# Altium schematic symbol library Custom pcb schamatic.SchLib: 110 symbols
Pins are listed as number, name and electrical type; pins without a type are passive.

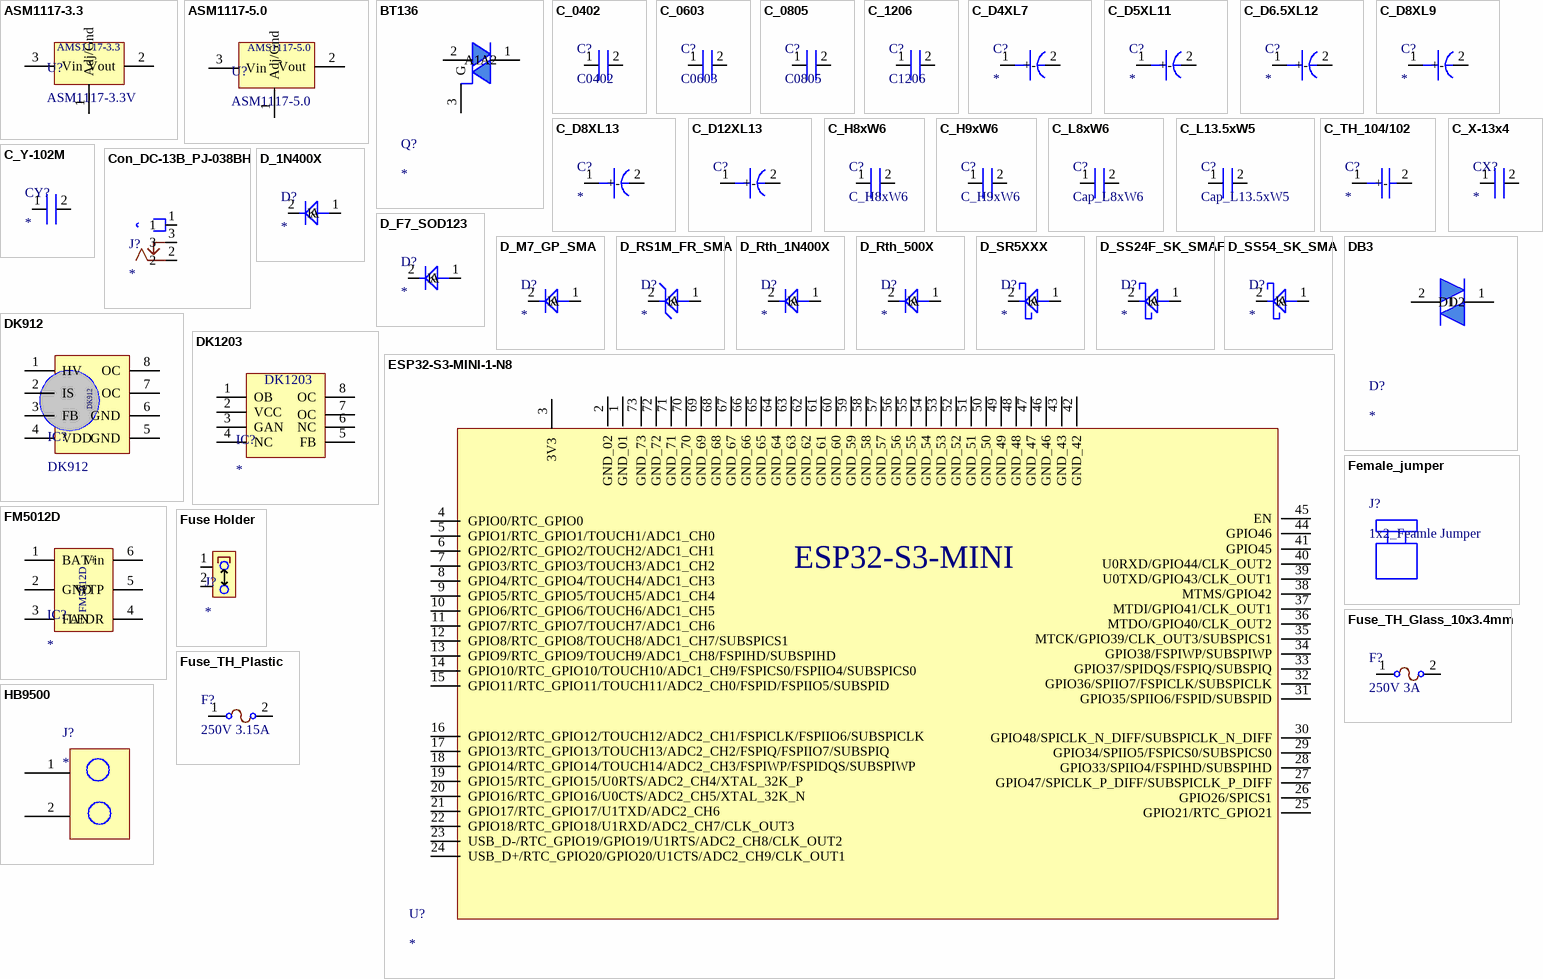
[diagram p0: symbols ASM1117-3.3 to HB9500]

## ASM1117-3.3
designator U?, comment ASM1117-3.3V
ASM1117-3.3V SOT-223; PN: *; Link: *
footprint AMS117-3.3
pins: 1 Adj/Gnd, 2 Vout, 3 Vin
text: AMS1117-3.3

## ASM1117-5.0
designator U?
ASM1117-5.0V SOT-223; PN: *; Link: *
footprint Ams117-5.0
pins: 1 Adj/Gnd, 2 Vout, 3 Vin
text: AMS1117-5.0

## BT136
designator Q?
PN: BT136-600E; Link: https://www.lcsc.com/product-detail/TRIACs_Minos-BT136-600E_C2980276.html
footprint TO220 (3 pin transistor 2.54 pitch)
pins: 1 A1, 2 A2, 3 G

## C_0402
designator C?, comment C0402
PN: *; Link: *
footprint C_0402
pins: 1, 2

## C_0603
designator C?, comment C0603
PN: *; Link: *
footprint C_0603
pins: 1, 2

## C_0805
designator C?, comment C0805
Pn: *; Link: *
footprint C_0805
pins: 1, 2

## C_1206
designator C?, comment C1206
PN: *; Link: *
footprint C_1206
pins: 1, 2

## C_D4XL7
designator C?
P=1.5mm; PN: *; Link: *
footprint CAP_D4XL7 (p=1.5mm)
pins: 1 +, 2 -

## C_D5XL11
designator C?
P=2mm; PN: *; Link: *
footprint CAP_D5XL11 (p=2mm)
pins: 1 +, 2 -

## C_D6.5XL12
designator C?
P=2.5mm; PN: *; Link: *
footprint CAP_D6.5XL12 (p=2.5mm)
pins: 1 +, 2 -

## C_D8XL9
designator C?
P=3.5mm; PN: *; Link: *
footprint CAP_D8XL9 (p=3.5mm)
pins: 1 +, 2 -

## C_D8XL13
designator C?
P=3.5mm; PN: *; Link: *
footprint CAP_D8XL13 (p=3.5mm)
pins: 1 +, 2 -

## C_D12XL13
designator C?
P=5mm; PN: *; Link: *
footprint CAP_D12XL13 (p=5mm)
pins: 1 +, 2 -

## C_H8xW6
designator C?
P=5mm; PN: *; Link: *
footprint C_H9xW6 (p=4mm)
pins: 1, 2

## C_H9xW6
designator C?
P=4mm; PN: *; Link: *
footprint C_H9xW6 (p=4mm)
pins: 1, 2

## C_L8xW6
designator C?, comment Cap_L8xW6
P=8mm
footprint C_L8xW6 (P=8mm)
pins: 1, 2

## C_L13.5xW5
designator C?, comment Cap_L13.5xW5
P=10mm
footprint C_L13.5xW5 (p=10mm)
pins: 1, 2

## C_TH_104/102
designator C?
P=5mm; PN: *; Link: *
footprint C_TH_104/102 (TH 104/102 capacitor 5mm Pitch)
pins: 1 +, 2 -

## C_X-13x4
designator CX?
MPX X2 0.22 uf 275v Metal Film Capacitor Pitch 10mm; PN: *; Link: https://www.jeccapacitor.com/safety-capacitor/mpx-x2-0.22-uf-275v-metal-film-capacitor.html
footprint CAP_X-13x4 (P-10mm)
pins: 1, 2

## C_Y-102M
designator CY?
Y1 safety ceramic capacitor 400V 102M; PN: JN102M; Link: https://www.zeusbtc.com/ASIC-Miner-Repair/Parts-Tools-Details.asp?ID=1443
footprint CAP_Y-P10-TH (P-10mm)
pins: 1, 2

## Con_DC-13B_PJ-038BH
designator J?
2.5mm Chassis Mounting DC Power Socket Connector; PN: PJ-038BH; Link: https://www.sameskydevices.com/product/resource/pj-038bh.pdf
footprint Con_DC-13B_PJ-038BH
pins: 1, 2, 3

## D_1N400X
designator D?
PN: *; Link: *
footprint D_1N400X (1N400X genral diode)
pins: 1 A, 2 K

## D_F7_SOD123
designator D?
PN: *; Link: *
footprint SOD123F-F7 (F7)
pins: 1 A, 2 K

## D_M7_GP_SMA
designator D?
PN: *; Link: *
footprint SMA_M7
pins: 1 A, 2 K

## D_RS1M_FR_SMA
designator D?
PN: *; Link: *
footprint SMA_M7
pins: 1 A, 2 K

## D_Rth_1N400X
designator D?
PN: *; Link: *
footprint D_Rth_1N400X
pins: 1 A, 2 K

## D_Rth_500X
designator D?
PN: *; Link: *
footprint D_Rth_500X
pins: 1 A, 2 K

## D_SR5XXX
designator D?
PN: *; Link: *
footprint D_SR5XXX (SR5XXX)
pins: 1 A, 2 K

## D_SS24F_SK_SMAF
designator D?
PN: *; Link: *
footprint SMAF (SS24F)
pins: 1 A, 2 K

## D_SS54_SK_SMA
designator D?
PN: *; Link: *
footprint SMA_M7
pins: 1 A, 2 K

## DB3
designator D?
PN: *; Link: *
footprint DB3
pins: 1 D1, 2 D2

## DK912
designator IC?
Link: *; PN: *
footprint SOP8
pins: 1 HV, 2 IS, 3 FB, 4 VDD, 5 GND, 6 GND, 7 OC, 8 OC

## DK1203
designator IC?
DK1203-15W , DK; PN: DK1203; Link: https://www.chipspulse.com/product/DK/DK1203-15W.html?utm_source=digipart&sku=DK1203-15W
footprint DK1203_TH
pins: 1 OB, 2 VCC, 3 GAN, 4 NC, 5 FB, 6 NC, 7 OC, 8 OC

## ESP32-S3-MINI-1-N8
designator U?
Bluetooth, WiFi 802.11b/g/n, Bluetooth v5.0 Transceiver Module 2.4GHz PCB Trace Surface Mount; PN: ESP32-S3-MINI-1-N8; Link: https://www.digikey.in/en/products/detail/espressif-systems/ESP32-S3-MINI-1-N8/15295890?gad_source=1&gclid=Cj0KCQiA8q--BhDiARIsAP9tKI22CCGmerfSxD2uR0z4XR06qFhDNyIUG9spqjyIpAb9EakBCG3Uz6AaAmzxEALw_wcB&gclsrc=aw.ds
footprint ESP32-S3-MINI-1-N8
pins: 1 GND_01, 2 GND_02, 3 3V3, 4 GPIO0/RTC_GPIO0, 5 GPIO1/RTC_GPIO1/TOUCH1/ADC1_CH0, 6 GPIO2/RTC_GPIO2/TOUCH2/ADC1_CH1, 7 GPIO3/RTC_GPIO3/TOUCH3/ADC1_CH2, 8 GPIO4/RTC_GPIO4/TOUCH4/ADC1_CH3, 9 GPIO5/RTC_GPIO5/TOUCH5/ADC1_CH4, 10 GPIO6/RTC_GPIO6/TOUCH6/ADC1_CH5, 11 GPIO7/RTC_GPIO7/TOUCH7/ADC1_CH6, 12 GPIO8/RTC_GPIO8/TOUCH8/ADC1_CH7/SUBSPICS1, 13 GPIO9/RTC_GPIO9/TOUCH9/ADC1_CH8/FSPIHD/SUBSPIHD, 14 GPIO10/RTC_GPIO10/TOUCH10/ADC1_CH9/FSPICS0/FSPIIO4/SUBSPICS0, 15 GPIO11/RTC_GPIO11/TOUCH11/ADC2_CH0/FSPID/FSPIIO5/SUBSPID, 16 GPIO12/RTC_GPIO12/TOUCH12/ADC2_CH1/FSPICLK/FSPIIO6/SUBSPICLK, 17 GPIO13/RTC_GPIO13/TOUCH13/ADC2_CH2/FSPIQ/FSPIIO7/SUBSPIQ, 18 GPIO14/RTC_GPIO14/TOUCH14/ADC2_CH3/FSPIWP/FSPIDQS/SUBSPIWP, 19 GPIO15/RTC_GPIO15/U0RTS/ADC2_CH4/XTAL_32K_P, 20 GPIO16/RTC_GPIO16/U0CTS/ADC2_CH5/XTAL_32K_N, 21 GPIO17/RTC_GPIO17/U1TXD/ADC2_CH6, 22 GPIO18/RTC_GPIO18/U1RXD/ADC2_CH7/CLK_OUT3, 23 USB_D-/RTC_GPIO19/GPIO19/U1RTS/ADC2_CH8/CLK_OUT2, 24 USB_D+/RTC_GPIO20/GPIO20/U1CTS/ADC2_CH9/CLK_OUT1, 25 GPIO21/RTC_GPIO21, 26 GPIO26/SPICS1, 27 GPIO47/SPICLK_P_DIFF/SUBSPICLK_P_DIFF, 28 GPIO33/SPIIO4/FSPIHD/SUBSPIHD, 29 GPIO34/SPIIO5/FSPICS0/SUBSPICS0, 30 GPIO48/SPICLK_N_DIFF/SUBSPICLK_N_DIFF, 31 GPIO35/SPIIO6/FSPID/SUBSPID, 32 GPIO36/SPIIO7/FSPICLK/SUBSPICLK, 33 GPIO37/SPIDQS/FSPIQ/SUBSPIQ, 34 GPIO38/FSPIWP/SUBSPIWP, 35 MTCK/GPIO39/CLK_OUT3/SUBSPICS1, 36 MTDO/GPIO40/CLK_OUT2, 37 MTDI/GPIO41/CLK_OUT1, 38 MTMS/GPIO42, 39 U0TXD/GPIO43/CLK_OUT1, 40 U0RXD/GPIO44/CLK_OUT2, 41 GPIO45, 42 GND_42, 43 GND_43, 44 GPIO46, 45 EN, 46 GND_46, 47 GND_47, 48 GND_48, 49 GND_49, 50 GND_50, 51 GND_51, 52 GND_52, 53 GND_53, 54 GND_54, 55 GND_55, 56 GND_56, 57 GND_57, 58 GND_58, 59 GND_59, 60 GND_60, 61 GND_61, 62 GND_62, 63 GND_63, 64 GND_64, 65 GND_65, 66 GND_66, 67 GND_67, 68 GND_68, 69 GND_69, 70 GND_70, 71 GND_71, 72 GND_72, 73 GND_73
text: ESP32-S3-MINI

## Female_jumper
designator J?, comment 1x2_Feamle Jumper  (mechanical)
Jumper (Busbar), Shunt, Shunt, 0.050 X 0.100 Terminal Strips, 2 Positions, 2.54 mm, SNM Series; Manufacturer: Samtec; Manufacturer Part Number: SNM-100-BK-G; Contact Resistance: 10mR; Number of Contacts: 2; Gender: Female; Pitch: 2.54mm; Supplier 1: Digikey; RoHS: Yes; Category: Connectors; Stock 1: 6862; Pricing 1: 1=0.64, 50=0.5, 100=0.4, 500=0.34, 1000=0.26, 2000=0.24, 5000=0.19, 10000=0.18977 (USD); Contact Material: Bronze; Contact Plating: Gold; Housing Color: Black; Housing Material: Polyester; Min Operating Temperature: -40°C; Max Operating Temperature: 90°C; Number of Rows: 1; Packaging: Bulk; Orientation: Straight; Series: *; Depth: 1.27mm; Radiation Hardening: No; Reach SVHC Compliant: No; RoHS Compliant: Yes; ComponentLink1URL: https://datasheet.ciiva.com/15174/getdatasheetpartid-348770-15174981.pdf?src-supplier=Verical; ComponentLink1Description: https://datasheet.ciiva.com/15174/getdatasheetpartid-348770-15174981.pdf?src-supplier=Verical; PN: SNM-100-BK-G; Link: https://www.digikey.com/en/products/detail/samtec-inc/SNM-100-BK-G/6678708

## FM5012D
designator IC?
PN: FM5012D; Link: https://www.chipsourcetek.com/DataSheet/FM5012D%20DataSheet.pdf
footprint SOT23-6 (SMD 6 pin)
pins: 1 BAT+, 2 GND, 3 FAN, 4 LEDR, 5 WTP, 6 Vin

## Fuse Holder
designator J?
P=2.5mm; PN: *; Link: *
footprint Fuse Holder (P=2.5mm)
pins: 1, 2

## Fuse_TH_Glass_10x3.4mm
designator F?, comment 250V 3A
Glass tube fuse TH 10x3.4 mm; PN: *; Link: https://www.alibaba.com/product-detail/3-6x10mm-glass-tube-fuse-250V_1601236500834.html?spm=a2700.galleryofferlist.p_offer.d_title.171413a0BOAR3n&s=p
footprint Fuse_TH_Glass_10x3.4mm (Glass tube fuse TH 10x3.4 mm)
pins: 1, 2

## Fuse_TH_Plastic
designator F?, comment 250V 3.15A
35A 3.15A 250V Plugin Disposable fuses ROHS; PN: 2009T3.15A250V; Link: https://lcsc.com/product-detail/Disposable-fuses_Hongda-2009T3-15A250V_C529790.html?s_z=n_Radial%25203.15A%252C%2520250V%2520ac%2520fuse
footprint Fuse_TH_Plastic (Plastic fuse TH P-5.08mm)
pins: 1, 2

## HB9500
designator J?
P=9.5mm , 2P; PN: HB9500; Link: https://rarecomponents.com/store/HB9500-2P
footprint HB9500_2P
pins: 1, 2

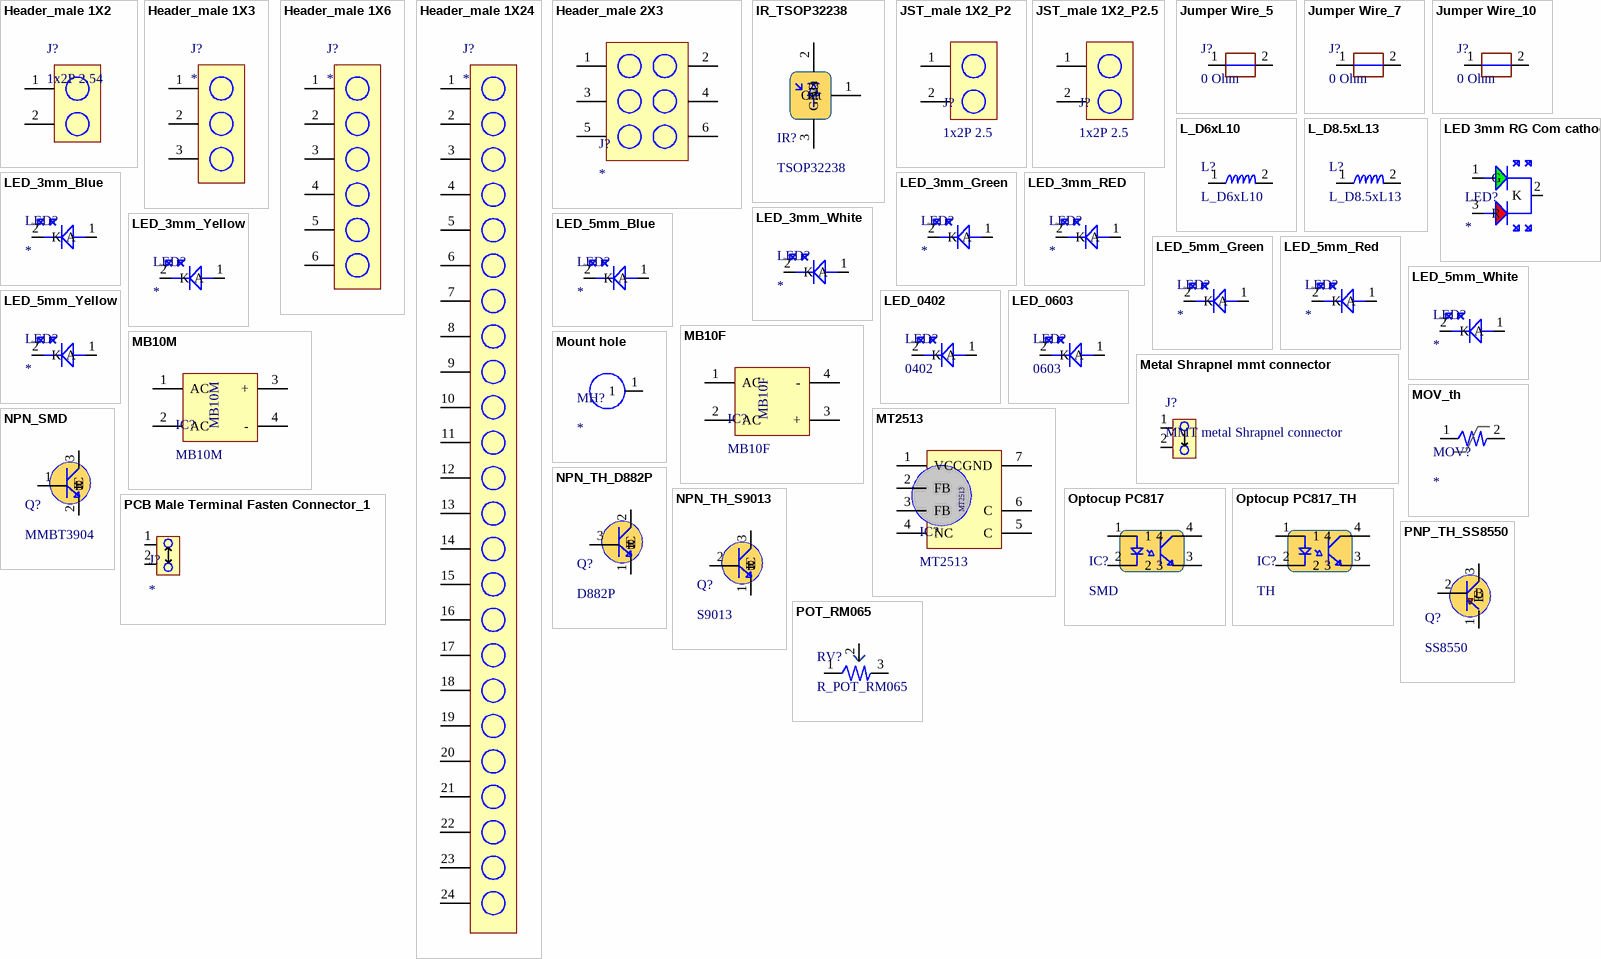
[diagram p1: symbols Header_male 1X2 to POT_RM065]

## Header_male 1X2
designator J?, comment 1x2P 2.54
Straight Square Pins 2.5mm 6mm 2P -40℃~+105℃ 3mm 2.54mm Black Brass Plugin 2.54mm 1x2P Plugin,P=2.54mm Pin Headers ROHS; PN: P125-1102A0AS116A2; Link: https://www.lcsc.com/product-detail/Pin-Headers_Yxcon-P125-1102A0AS116A2_C7494856.html
footprint Male Header 1X2
pins: 1, 2

## Header_male 1X3
designator J?
P=2.54mm; PN: *; Link: *
footprint Male Header 1X3
pins: 1, 2, 3

## Header_male 1X6
designator J?
P=2.54mm; PN: *; Link: *
footprint Male Header 1X6
pins: 1, 2, 3, 4, 5, 6

## Header_male 1X24
designator J?
P=2.54mm; PN: *; Link: *
footprint Male Header 1X24 (P2.54mm)
pins: 1, 2, 3, 4, 5, 6, 7, 8, 9, 10, 11, 12, 13, 14, 15, 16, 17, 18, 19, 20, 21, 22, 23, 24

## Header_male 2X3
designator J?
P=2.54mm
footprint Male header 2X3
pins: 1, 2, 3, 4, 5, 6

## IR_TSOP32238
designator IR?, comment TSOP32238
Infrared Receivers 2.7-5.5V 38kHz; PN: TSOP32238; Link: https://www.mouser.com/ProductDetail/Vishay-Semiconductors/TSOP32238?qs=EABMROi2%2FsKT2FOMevD8qg%3D%3D&srsltid=AfmBOopU-iYpaxyqT4bJakdT80na8nuwCjlONmchwLJYEGhPq8dUwTez
footprint IR_TSOP32238 (TH 2.7-5.5V P2.54)
pins: 1 Out, 2 Vs, 3 GND

## JST_male 1X2_P2
designator J?, comment 1x2P 2.5
1x2P 2P PH 1 Tin 2mm 2mm 2 -25℃~+85℃ Brass 1A Direct Insert Plugin,P=2mm Wire To Board Connector ROHS; PN: 2.0mm-2P ZZ; Link: https://www.lcsc.com/product-detail/Wire-To-Board-Connector_SHOU-HAN-2-0mm-2P-ZZ_C5368724.html
footprint JST_male 1X2_P2mm (2mm Pitch)
pins: 1, 2

## JST_male 1X2_P2.5
designator J?, comment 1x2P 2.5
Connector Header Through Hole 2 position 0.098" (2.50mm); PN: B2B-XH-A; Link: https://www.digikey.com/en/products/detail/jst-sales-america-inc/B2B-XH-A/1651045
footprint JST_male 1X2_P2.5mm (2.5mm Pitch)
pins: 1, 2

## Jumper Wire_5
designator J?, comment 0 Ohm
5mm; PN: *; Link: *
footprint Jumper Wire_5 (5 mm)
pins: 1, 2

## Jumper Wire_7
designator J?, comment 0 Ohm
7mm; PN: *; Link: *
footprint Jumper Wire_7 (7 mm)
pins: 1, 2

## Jumper Wire_10
designator J?, comment 0 Ohm
10mm; PN: *; Link: *
footprint Jumper Wire_10 (10 mm)
pins: 1, 2

## L_D6xL10
designator L?
P=4mm; PN: *; Link: *
footprint L_D6xL10 (p=4mm)
pins: 1, 2

## L_D8.5xL13
designator L?
P=6mm; PN: *; Link: *
footprint L_D8.5xL13 (p=6mm)
pins: 1, 2

## LED 3mm RG Com cathod
designator LED?
Red Green Common Cathode  P=2.54mm; PN: XL-A324SURSYGW; Link: https://www.lcsc.com/datasheet/lcsc_datasheet_2401120947_XINGLIGHT-XL-A324SURSYGW_C2895562.pdf
footprint LED_RG_3mm
pins: 1 G, 2 K, 3 R

## LED_3mm_Blue
designator LED?
P=2.54mm; PN: *; Link: *
footprint LED_3mm_Blue (BLUE 3mm P2.54)
pins: 1 A, 2 K

## LED_3mm_Green
designator LED?
P=2.54mm; PN: *; Link: *
footprint LED_3mm_Green (Green 3mm P2.54)
pins: 1 A, 2 K

## LED_3mm_RED
designator LED?
P=2.54mm; PN: *; Link: *
footprint LED_3mm_RED (Red 3mm P2.54)
pins: 1 A, 2 K

## LED_3mm_White
designator LED?
P=2.54mm; PN: *; Link: *
footprint LED_3mm_White (White 3mm P2.54)
pins: 1 A, 2 K

## LED_3mm_Yellow
designator LED?
P=2.54mm; PN: *; Link: *
footprint LED_3mm_Yellow (Yellow 3mm P2.54)
pins: 1 A, 2 K

## LED_5mm_Blue
designator LED?
P=2.54mm; PN: *; Link: *
footprint LED_5mm_Blue (BLUE 5mm P2.54)
pins: 1 A, 2 K

## LED_5mm_Green
designator LED?
P=2.54mm; PN: *; Link: *
footprint LED_5mm_Green (Green 5mm P2.54)
pins: 1 A, 2 K

## LED_5mm_Red
designator LED?
P=2.54mm; PN: *; Link: *
footprint LED_5mm_Red (Red 5mm P2.54)
pins: 1 A, 2 K

## LED_5mm_White
designator LED?
P=2.54mm; PN: *; Link: *
footprint LED_5mm_White (White 5mm P2.54)
pins: 1 A, 2 K

## LED_5mm_Yellow
designator LED?
P=2.54mm; PN: *; Link: *
footprint LED_5mm_Yellow (Yellow 5mm P2.54)
pins: 1 A, 2 K

## LED_0402
designator LED?, comment 0402
footprint LED_0402 (SMD LED)
pins: 1 A, 2 K

## LED_0603
designator LED?, comment 0603
30mA 566nm~576nm -40℃~+85℃ Green-yellow 120° 1.8V~2.4V 0603 Light Emitting Diodes (LED) ROHS; PN: YLED0603YG; Link: https://www.lcsc.com/product-detail/Light-Emitting-Diodes-LED_YONGYUTAI-YLED0603YG_C19171392.html
footprint L_0603 (SMD LED)
pins: 1 A, 2 K

## MB10F
designator IC?
SMD; Link: *; PN: *
footprint MB10F
pins: 1 AC, 2 AC, 3 +, 4 -

## MB10M
designator IC?
30A 1.1V@500mA 800mA 1kV MB-1 Bridge Rectifiers ROHS; PN: MB10M(0.8A); Link: https://www.lcsc.com/product-detail/Bridge-Rectifiers_UMW-Youtai-Semiconductor-Co-Ltd-MB10M-0-8A_C347355.html?s_z=n_MB10M
footprint MB10M (TH)
pins: 1 AC, 2 AC, 3 +, 4 -

## Metal Shrapnel mmt connector
designator J?, comment MMT metal Shrapnel connector
Metal Shrapnel mmt connector mobile charger; PN: *; Link: https://mmt2018.en.made-in-china.com/product/rjtmlFMyLiks/China-Mmt-AC-Mobile-Phone-Charger-Metal-Shrapnel-Contact.html
footprint MMT Metal shrapnel connector
pins: 1, 2

## Mount hole
designator MH?
M3
footprint Mount hole
pins: 1

## MOV_th
designator MOV?
p=7mm D9; PN: *; Link: *
footprint MOV_th (p=7mm)
pins: 1, 2

## MT2513
designator IC?
MT2513 SOP8 Integrated Circuits; Link: https://www.worldwayelec.com/pro/newhaven-display-international/mt2513/4924573/mt2513.pdf?utm_source=chatgpt.com; PN: MT2513
footprint SOP8-7 (MT2513)
pins: 1 VCC, 2 FB, 3 FB, 4 NC, 5 C, 6 C, 7 GND

## NPN_SMD
designator Q?, comment MMBT3904
40V 200mW 100@100mA,1V 200mA NPN SOT-23 Bipolar Transistors - BJT ROHS; PN: MMBT3904; Link: https://www.lcsc.com/product-detail/Bipolar-Transistors-BJT_YONGYUTAI-MMBT3904_C2891808.html
footprint SOT23 (SOT23, 3-Leads, Body 2.90x2.45mm, Pitch 0.95mm, IPC Medium Density)
pins: 1 B, 2 E, 3 C

## NPN_TH_D882P
designator Q?, comment D882P
30V 1.25W 160@1A,2V 3A NPN TO-126 Bipolar Transistors - BJT ROHS; PN: D882P; Link: https://www.utsource.net/itm/p/1382440.html
footprint NPN_TH_D882P (NPN TH D882P F_TO-126)
pins: 1 E, 2 C, 3 B

## NPN_TH_S9013
designator Q?, comment S9013
25V 625mW 500mA NPN TO-92-3 Bipolar (BJT) ROHS; PN: S9013(RANGE:144-202); Link: https://www.lcsc.com/product-detail/Bipolar-BJT_Jiangsu-Changjing-Electronics-Technology-Co-Ltd-S9013-RANGE-144-202_C16066.html
footprint NPN_TH_S9013 (NPN TH S9013 F_TO-92)
pins: 1 E, 2 B, 3 C

## Optocup PC817
designator IC?, comment SMD
5kV 50mA 100mV@1mA,20mA 1 6V 1.2V DC SMD-4P Transistor Output Optocoupler ROHS; PN: PC817C; Link: https://www.lcsc.com/product-detail/Transistor-Output-Optocoupler_GOODWORK-PC817C_C3025164.html
footprint Optocuplar_PC817 (4P SMD PC817)
pins: 1, 2, 3, 4

## Optocup PC817_TH
designator IC?, comment TH
35V 5kV 50mA 100mV@1mA,20mA 1 6V 1.2V DC DIP-4 Transistor, Photovoltaic Output Optoisolators ROHS; PN: PC817C; Link: https://www.lcsc.com/product-detail/Transistor-Photovoltaic-Output-Optoisolators_GOODWORK-PC817C_C3025068.html?s_z=n_PC817
footprint Optocuplar_PC817-TH (4P TH PC817)
pins: 1, 2, 3, 4

## PCB Male Terminal Fasten Connector_1
designator J?
Male Insulated Crimp Spade PCB Male Terminal Fasten Connector; PN: *; Link: *
footprint PCB Male Terminal Fasten Connector (Male IInsulated Crimp Spade PCB Male Terminal Fasten Connector)
pins: 1, 2

## PNP_TH_SS8550
designator Q?, comment SS8550
25V 1W 1.5A PNP TO-92-3 Bipolar (BJT) ROHS; PN: SS8550; Link: https://www.lcsc.com/product-detail/Bipolar-BJT_Slkor-SLKORMICRO-Elec-SS8550_C2826362.html
footprint PNP_TH_SS8550 (PNP TH SS8550 F_TO-92)
pins: 1 E, 2 B, 3 C

## POT_RM065
designator RV?, comment R_POT_RM065
footprint POT_RM065 (3 pin pot)
pins: 1, 2, 3

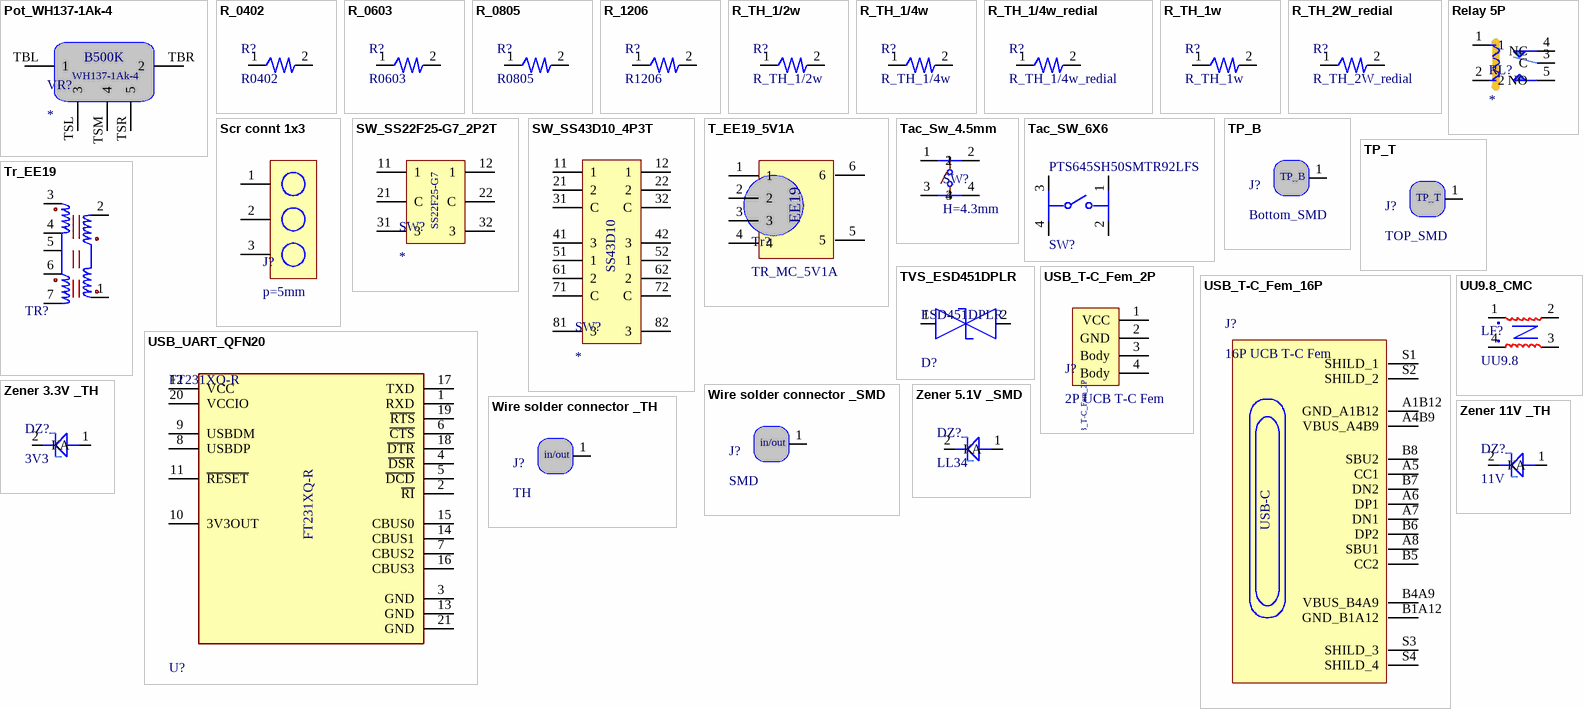
[diagram p2: symbols Pot_WH137-1Ak-4 to Zener 11V _TH]

## Pot_WH137-1Ak-4
designator VR?
PN: WH137-1Ak-4; Link: http://www.antel.cn/product_show.asp?CID1=37&CID2=256&ID=11103
footprint Pot_WH137-1Ak-4 (Fan POT _B500K)
pins: TBL 1, TBR 2, TSL 3, TSM 4, TSR 5
text: B500K

## R_0402
designator R?, comment R0402
PN: *; Link: *
footprint R_0402
pins: 1, 2

## R_0603
designator R?, comment R0603
PN: *; Link: *
footprint R_0603
pins: 1, 2

## R_0805
designator R?, comment R0805
PN: *; Link: *
footprint R_0805
pins: 1, 2

## R_1206
designator R?, comment R1206
PN: *; Link: *
footprint R_1206
pins: 1, 2

## R_TH_1/2w
designator R?
PN: *; Link: *
footprint R_TH_1/2W
pins: 1, 2

## R_TH_1/4w
designator R?
PN: *; Link: *
footprint R_TH_1/4W
pins: 1, 2

## R_TH_1/4w_redial
designator R?
PN: *; Link: *
footprint R_TH_1/4w_redial
pins: 1, 2

## R_TH_1w
designator R?
PN: *; Link: *
footprint R_TH_1W
pins: 1, 2

## R_TH_2W_redial
designator R?
PN: *; Link: *
footprint R_TH_2w_redial
pins: 1, 2

## Relay 5P
designator RL?
PN: SRD-05VDC-SL-C; Link: https://www.lcsc.com/product-detail/Relays_SRD-05VDC-SL-C_C35449.html
footprint Relay 5P
pins: 1, 2, 3 C, 4 NC, 5 NO

## Scr connt 1x3
designator J?, comment p=5mm
1x3P -30℃~+120℃ 17A 250V Blue 14~22 Straight 5mm 1.5 1 3 Plugin,P=5mm Screw terminal ROHS; PN: KF301-5.0-3P; Link: https://www.lcsc.com/product-detail/Screw-terminal_Cixi-Kefa-Elec-KF301-5-0-3P_C474882.html
footprint Scr connt 1x3 (p=5mm)
pins: 1, 2, 3

## SW_SS22F25-G7_2P2T
designator SW?
Slide Switch 2 Position 6 Pins With Fixed Hole Handle High 7mm DPDT 2P2T SS22F25G7 SS22F25-G7 Toggle Switch 125VAC; PN: S22F25-G7; Link: https://www.aliexpress.com/item/1005002781426679.html
footprint SW_SS22F25-G7_2P2T
pins: 11 1, 12 1, 21 C, 22 C, 31 3, 32 3
text: SS22F25-G7

## SW_SS43D10_4P3T
designator SW?
16 pin slide switch 3 position; PN: SS43D10; Link: http://www.jack-zx.com/en/p_xx.asp?id=1317
footprint SW_SS43D10_4P3T
pins: 11 1, 12 1, 21 2, 22 2, 31 C, 32 C, 41 3, 42 3, 51 1, 52 1, 61 2, 62 2, 71 C, 72 C, 81 3, 82 3

## T_EE19_5V1A
designator Tr?, comment TR_MC_5V1A
Link: *; PN: *
footprint T_EE19_5V1A
pins: 1, 2, 3, 4, 5, 6
text: EE19

## Tac_Sw_4.5mm
designator SW?, comment H=4.3mm
None Without 50mA 4.5mm 100MΩ 100000 Times 12V 250gf 4.5mm 4.3mm Round Button Standing paste SPST SMD Tactile Switches ROHS; PN: TS4543TP 250gf 009; Link: https://jlcpcb.com/partdetail/SHOUHAN-TS4543TP_250gf009/C5342984
footprint Tac_Sw_4.5mm
pins: 1, 2, 3, 4

## Tac_SW_6X6
designator SW?, comment PTS645SH50SMTR92LFS
SWITCH TACTILE SPST-NO 0.05A 12V; Operating Force: 200gf; Current Rating: 50mA; Illumination Type: Non-Illuminated; Actuator Material: Nylon; Throw Configuration: SPST; Switch Function: Off-Mom; Mechanical Life: 100000Cycles; Actuator Type: Standard; Packaging: Tape and Reel; Termination: Gull Wing; Max Operating Temperature: 60°C; Length: 6mm; REACH SVHC: No SVHC; Orientation: Straight; Max Voltage Rating (DC): 12V; Package Quantity: 1000; Max Current Rating: 50mA; Mount: Surface Mount; Contact Material: Bronze; Case/Package: SMD/SMT; Lead Free: Lead Free; Min Operating Temperature: -20°C; Contact Plating: Silver; Color: Black; Depth: 9mm; Voltage Rating (DC): 12V; PN: PTS645SH50SMTR92LFS; Link: https://www.digikey.com/en/products/detail/c-k/PTS645SH50SMTR92-LFS/1162182?s=N4IgTCBcDaIAoBUDKA2ALAViQCQwBiQFkEAlATjABkAxJEAXQF8g
footprint Tac_SW_6X6
pins: 1, 2, 3, 4

## TP_B
designator J?, comment Bottom_SMD
Test Point Bottom side
footprint TP_B (Test Point Bottom)
pins: 1

## TP_T
designator J?, comment TOP_SMD
Test Point TOP side
footprint TP_T (Test Point TOP)
pins: 1

## Tr_EE19
designator TR?
5+2; PN: *; Link: *
footprint TR_EE19_12V2A (5+2)
pins: 1, 2, 3, 4, 5, 6, 7

## TVS_ESD451DPLR
designator D?, comment ESD451DPLR
0.5-pF, 5.5-V, 30-KV bidirectional ESD protection device in 0201 package 2-X2SON -40 to 125; Manufacturer: Texas Instruments; Manufacturer Lifecycle Status: ACTIVE; Breakdown Voltage: 7V; Symbol Hash: ef80418522d6051962dd4b26d32e3660df68fe92256db84e53ab93754fc7945b; Peak Pulse Power: 57W; Clamping Voltage: 9.5V; Verification Version: 0.0.0.3; Peak Pulse Current: 6A; Capacitance: 0.5pF; Reverse Standoff Voltage: 5.5V; Standoff Height: 0mm; Number Of Channels: 1; Value: 0.5pF; Mouser Part Number: 595-ESD451DPLR; Mouser Description: 0.5-pF, 5.5-V, 30-KV bidirectional ESD protection device in 0201 package 2-X2SON -40 to 125; Ambient Temperature Range Low: -55°C; Datasheet Version: SLVSH27A; Datasheet Date: 2023-06; Direction: Bidirectional; Temperature Range High: +125°C; Ambient Temperature Range High: +150°C; Digikey Description: TVS DIODE 5.5VWM 9.5VC 2-X2SON; Digikey Part Number: 296-ESD451DPLRCT-ND; ComponentLink2URL: https://www.ti.com/lit/ds/symlink/esd451.pdf; ComponentLink2Description: Datasheet; Footprint Url: https://www.ti.com/lit/ds/symlink/tpd1e04u04.pdf?ts=1701165483995&ref_url=https%253A%252F%252Fwww.ti.com%252Fproduct%252FTPD1E04U04%252Fpart-details%252FTPD1E04U04DPLR; Part Number: ESD451DPLR; Lead Free: Yes; Height: 0.32mm; Automotive: No; Temperature Range Low: -40°C; RoHS: TRUE; Package: DPL0002A; ComponentLink1Description: Upverter; Supplier 2: Mouser; Supplier 1: Digi-Key; ComponentLink1URL: https://upverter.com/part/id/3a48c3bd438d5763/; Supplier Part Number 2: 595-ESD451DPLR; Supplier Part Number 1: 296-ESD451DPLRCT-ND; helpURL: https://upverter.com/part/id/3a48c3bd438d5763/; Temperature: -40°C to +125°C; Thickness: 300µm; ComponentLink3URL: https://www.ti.com/lit/ds/symlink/tpd1e04u04.pdf?ts=1701165483995&ref_url=https%253A%252F%252Fwww.ti.com%252Fproduct%252FTPD1E04U04%252Fpart-details%252FTPD1E04U04DPLR; ComponentLink3Description: Manufacturer's Package Drawing; Lifecycle Status: Production; ComponentLink1URL: http://ti.com; ComponentLink2Description: HelpURL; Width: 300µm; Height: 320µm; Number of Pins: 2; ComponentLink1Description: Manufacturer's Website; Length: 600µm; PN: ESD451DPLR; Link: https://www.digikey.com/en/products/detail/texas-instruments/ESD451DPLR/21298798
footprint TVS_ESD451DPLR
pins: 1 1 IO, 2 2 IO

## USB_T-C_Fem_2P
designator J?, comment 2P UCB T-C Fem
2P Type-C Plugin USB Connectors ROHS; PN: KH-TYPE-C-2P; Link: https://www.lcsc.com/product-detail/USB-Connectors_Shenzhen-Kinghelm-Elec-KH-TYPE-C-2P_C2919656.html
footprint USB_T-C_Fem_2P (Usb type-c 2pin female_ p=3.6)
pins: 1 VCC, 2 GND, 3 Body, 4 Body

## USB_T-C_Fem_16P
designator J?, comment 16P UCB T-C Fem
USB Connector, USB Type C, USB 2.0, Receptacle, 16 Ways, Surface Mount, Through Hole Mount; Manufacturer: Molex; PN: 217179-0001; USB Standard: USB 2.0; Current Rating: 1.25A; Number of Contacts: 16; Voltage Rating: 30V; Link: https://www.digikey.com/en/products/detail/molex/2171790001/13913749; Supplier 1: Digikey; Manufacturer Part Number: 217179-0001; RoHS: No; Category: Connectors; Stock 1: 26797; Pricing 1: 1=0.83, 10=0.704, 25=0.6596, 50=0.628, 100=0.598, 250=0.56052, 500=0.53374 (USD); Contact Material: Nickel,Gold; Min Operating Temperature: -40°C; Max Operating Temperature: 85°C; Gender: Receptacle; Height: 3.36mm
footprint USB_T-C_Fem_16P (FP-2171790001-MFG)
pins: A1B12 GND_A1B12, A4B9 VBUS_A4B9, A5 CC1, A6 DP1, A7 DN1, A8 SBU1, B1A12 GND_B1A12, B4A9 VBUS_B4A9, B5 CC2, B6 DP2, B7 DN2, B8 SBU2, S1 SHILD_1, S2 SHILD_2, S3 SHILD_3, S4 SHILD_4
text: USB-C

## USB_UART_QFN20
designator U?, comment FT231XQ-R
IC USB SERIAL FULL UART 20QFN; Data Rate: 12Mbps; Operating Supply Current: 8mA; Min Supply Voltage: 2.97V; Max Supply Voltage: 5.5V; Number of Channels: 1; Min Operating Temperature: -40°C; Case/Package: QFN; Mount: Surface Mount; Number of Pins: 20; Interface: UART; Lead Free: Lead Free; Package Quantity: 5000; Weight: 0.004339oz; Packaging: Tape and Reel; Max Operating Temperature: 85°C; PN: FT231XQ-R; Link: https://www.digikey.com/en/products/detail/ftdi-future-technology-devices-international-ltd/FT231XQ-R/3029140
footprint USB-UART-QFN-20 (FT231XQ-R)
pins: 1 RXD, 2 ~{RI}, 3 GND, 4 ~{DSR}, 5 ~{DCD}, 6 ~{CTS}, 7 CBUS2, 8 USBDP, 9 USBDM, 10 3V3OUT, 11 ~{RESET}, 12 VCC, 13 GND, 14 CBUS1, 15 CBUS0, 16 CBUS3, 17 TXD, 18 ~{DTR}, 19 ~{RTS}, 20 VCCIO, 21 GND

## UU9.8_CMC
designator LF?, comment UU9.8
PN: *; Link: *
footprint UU9.8_CMC (Common mode Filter UU9.8)
pins: 1, 2, 3, 4

## Wire solder connector _SMD
designator J?, comment SMD
footprint Wire solder connector _SMD - duplicate
pins: 1
text: in/out

## Wire solder connector _TH
designator J?, comment TH
footprint Wire solder connector _TH
pins: 1
text: in/out

## Zener 3.3V _TH
designator DZ?, comment 3V3
Independent Type 1W 3.3V DO-41 Zener Diodes ROHS; PN: Independent Type 1W 3.3V DO-41 Zener Diodes ROHS; Link: https://www.lcsc.com/product-detail/Zener-Diodes_Nexperia-1N4728A-113_C455055.html
footprint Zener 3.3V _TH (3.3v Zener TH 10 mm)
pins: 1 A, 2 K

## Zener 5.1V _SMD
designator DZ?, comment LL34
Single 4.8V~5.4V 500mW 5.1V LL-34 Zener Diodes ROHS; PN: ZMM5V1; Link: https://www.lcsc.com/product-detail/Zener-Diodes_HXY-MOSFET-ZMM5V1_C5345992.html
footprint LL34 (Zener)
pins: 1 A, 2 K

## Zener 11V _TH
designator DZ?, comment 11V
400mW 11V DO-204AH(DO-35) Zener Diodes ROHS; PN: BZX79-B11,133; Link: https://www.lcsc.com/product-detail/Zener-Diodes_Nexperia-BZX79-B11-133_C550681.html?s_z=n_zener%2011V
footprint Zener 11V _TH (11v Zener TH 10 mm)
pins: 1 A, 2 K